# Altium footprint library PcbLib1.PcbLib: 58 footprints (part 2 of 4)
Each footprint in its own frame and in the unit in brackets; x right, y up, seen from the top. Pads: shape width x height; smd on the part's side, far side on the other; paste and mask are expansions set on the pad; w line width, h text height; cw(c..) or ccw(c..) is an arc to the next point about the centre after c.
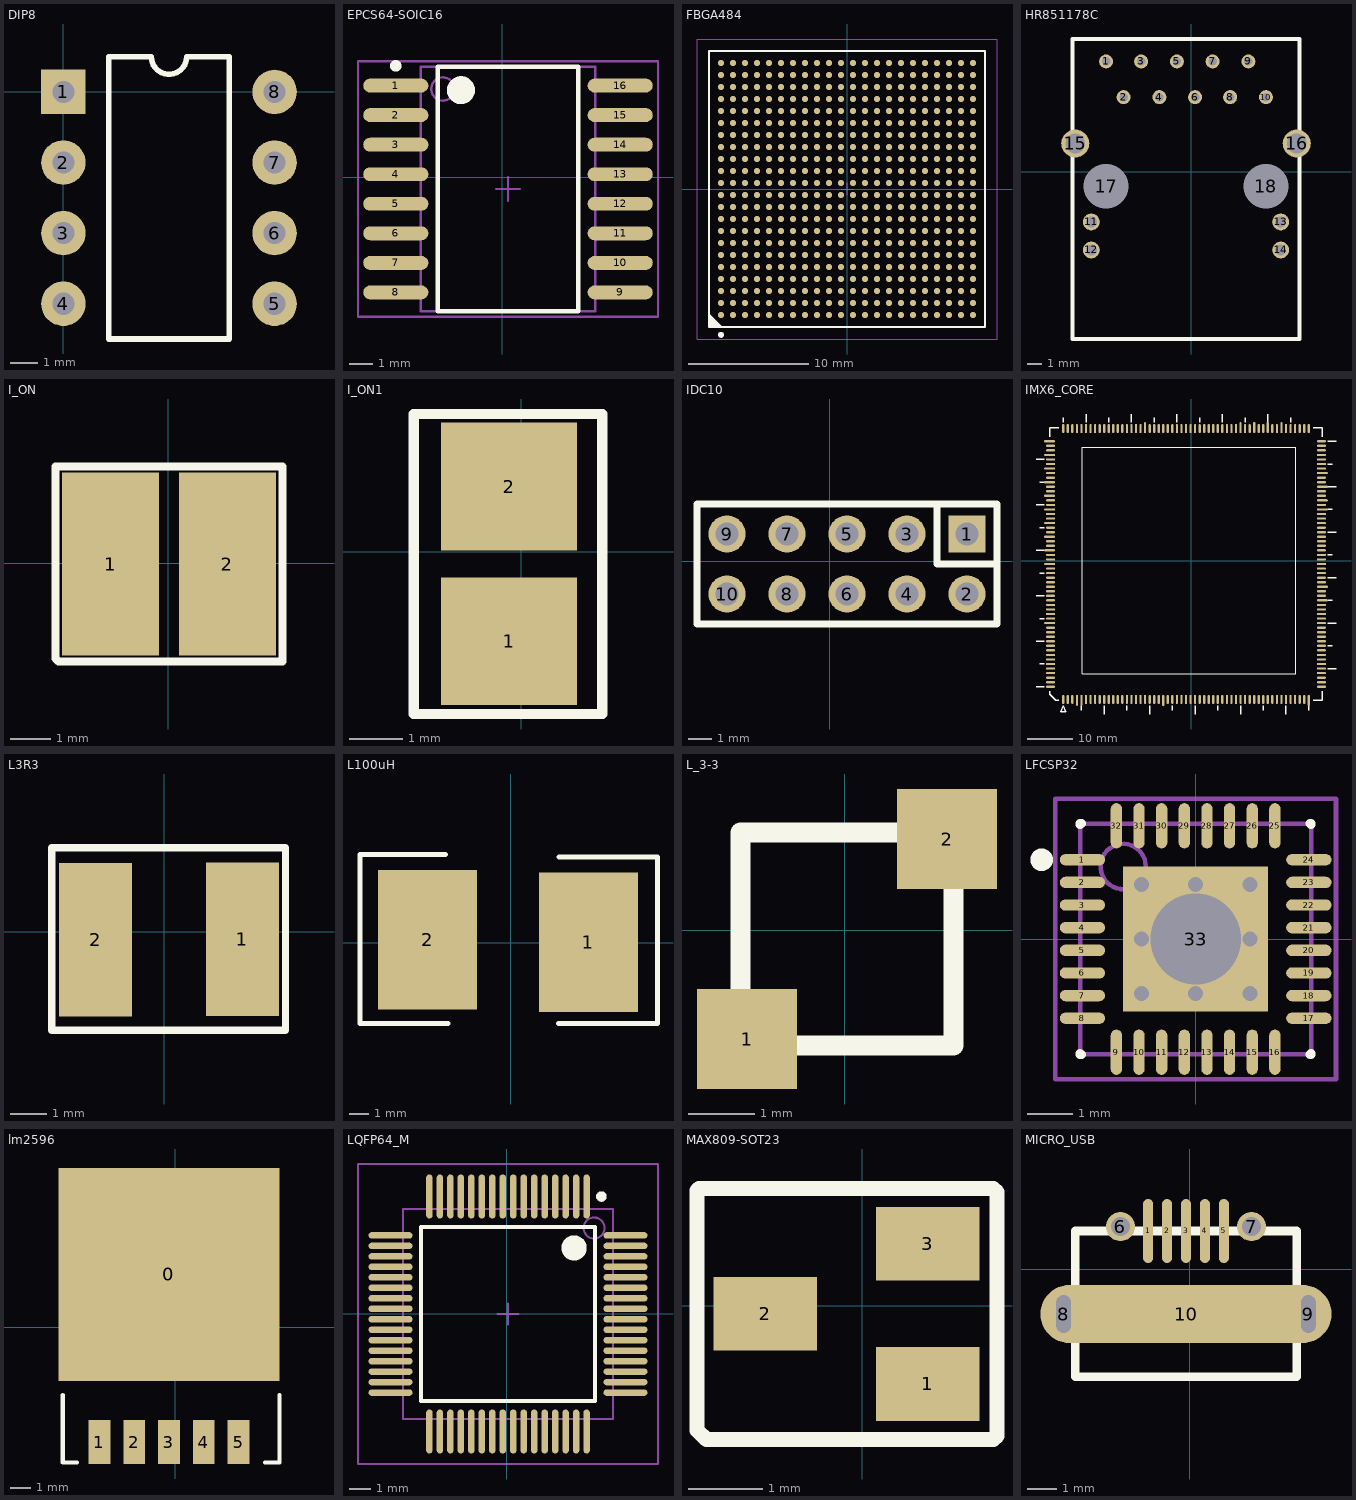
[diagram p1: the footprints below, top view; thin cyan lines are the x and y axes]

## DIP8 [mm]
pads (8):
  rect 1.6x1.6 hole 0.8: 1(0,0)
  round 1.6 hole 0.8: 2(0,-2.54) 3(0,-5.08) 4(0,-7.62) 5(7.6,-7.62) 6(7.6,-5.08) 7(7.6,-2.54) 8(7.6,0)
Top Overlay:
  lines w0.2: 1.635,-8.89 5.965,-8.89 5.965,1.27 4.435,1.27 cw(c3.8,1.27) 3.165,1.27 1.635,1.27 1.635,-8.89

## EPCS64-SOIC16 [mm]
pads (16):
  oval 2.8x0.6 smd: 1(-4.571,3.937) 2(-4.571,2.667) 3(-4.571,1.397) 4(-4.571,0.127) 5(-4.571,-1.143) 6(-4.571,-2.413) 7(-4.571,-3.683) 8(-4.571,-4.953) 9(5.079,-4.953) 10(5.079,-3.683) 11(5.079,-2.413) 12(5.079,-1.143) 13(5.079,0.127) 14(5.079,1.397) 15(5.079,2.667) 16(5.079,3.937)
Top Overlay:
  circle w0.25: c-4.571,4.787 r0.125
  circle w0.6: c-1.771,3.742 r0.3
  lines w0.2: -2.771,-5.758 -2.771,4.742 3.279,4.742 3.279,-5.758 -2.771,-5.758
Mechanical 13:
  circle w0.1: c-2.546,3.792 r0.5
  lines w0.1: -3.496,-5.758 -3.496,4.742 4.004,4.742 4.004,-5.758 -3.496,-5.758
Mechanical 15:
  lines w0.1: -0.246,-0.508 0.754,-0.508 ; 0.254,-1.008 0.254,-0.008 ; -6.196,-6.008 -6.196,4.992 6.704,4.992 6.704,-6.008 -6.196,-6.008
3D body: height 2.65, standoff 0.2, extent -3.496,-5.758 4.004,4.742

## FBGA484 [mm]
pads (484):
  round 0.5 smd: A1(-10.5,-10.5) A2(-10.5,-9.5) A3(-10.5,-8.5) A4(-10.5,-7.5) A5(-10.5,-6.5) A6(-10.5,-5.5) A7(-10.5,-4.5) A8(-10.5,-3.5) A9(-10.5,-2.5) A10(-10.5,-1.5) A11(-10.5,-0.5) A12(-10.5,0.5) A13(-10.5,1.5) A14(-10.5,2.5) A15(-10.5,3.5) A16(-10.5,4.5) A17(-10.5,5.5) A18(-10.5,6.5) A19(-10.5,7.5) A20(-10.5,8.5) A21(-10.5,9.5) A22(-10.5,10.5) AA1(9.5,-10.5) AA2(9.5,-9.5) AA3(9.5,-8.5) AA4(9.5,-7.5) AA5(9.5,-6.5) AA6(9.5,-5.5) AA7(9.5,-4.5) AA8(9.5,-3.5) AA9(9.5,-2.5) AA10(9.5,-1.5) AA11(9.5,-0.5) AA12(9.5,0.5) AA13(9.5,1.5) AA14(9.5,2.5) AA15(9.5,3.5) AA16(9.5,4.5) AA17(9.5,5.5) AA18(9.5,6.5) AA19(9.5,7.5) AA20(9.5,8.5) AA21(9.5,9.5) AA22(9.5,10.5) AB1(10.5,-10.5) AB2(10.5,-9.5) AB3(10.5,-8.5) AB4(10.5,-7.5) AB5(10.5,-6.5) AB6(10.5,-5.5) AB7(10.5,-4.5) AB8(10.5,-3.5) AB9(10.5,-2.5) AB10(10.5,-1.5) AB11(10.5,-0.5) AB12(10.5,0.5) AB13(10.5,1.5) AB14(10.5,2.5) AB15(10.5,3.5) AB16(10.5,4.5) AB17(10.5,5.5) AB18(10.5,6.5) AB19(10.5,7.5) AB20(10.5,8.5) AB21(10.5,9.5) AB22(10.5,10.5) B1(-9.5,-10.5) B2(-9.5,-9.5) B3(-9.5,-8.5) B4(-9.5,-7.5) B5(-9.5,-6.5) B6(-9.5,-5.5) B7(-9.5,-4.5) B8(-9.5,-3.5) B9(-9.5,-2.5) B10(-9.5,-1.5) B11(-9.5,-0.5) B12(-9.5,0.5) B13(-9.5,1.5) B14(-9.5,2.5) B15(-9.5,3.5) B16(-9.5,4.5) B17(-9.5,5.5) B18(-9.5,6.5) B19(-9.5,7.5) B20(-9.5,8.5) B21(-9.5,9.5) B22(-9.5,10.5) C1(-8.5,-10.5) C2(-8.5,-9.5) C3(-8.5,-8.5) C4(-8.5,-7.5) C5(-8.5,-6.5) C6(-8.5,-5.5) C7(-8.5,-4.5) C8(-8.5,-3.5) C9(-8.5,-2.5) C10(-8.5,-1.5) C11(-8.5,-0.5) C12(-8.5,0.5) C13(-8.5,1.5) C14(-8.5,2.5) C15(-8.5,3.5) C16(-8.5,4.5) C17(-8.5,5.5) C18(-8.5,6.5) C19(-8.5,7.5) C20(-8.5,8.5) C21(-8.5,9.5) C22(-8.5,10.5) D1(-7.5,-10.5) D2(-7.5,-9.5) D3(-7.5,-8.5) D4(-7.5,-7.5) D5(-7.5,-6.5) D6(-7.5,-5.5) D7(-7.5,-4.5) D8(-7.5,-3.5) D9(-7.5,-2.5) D10(-7.5,-1.5) D11(-7.5,-0.5) D12(-7.5,0.5) D13(-7.5,1.5) D14(-7.5,2.5) D15(-7.5,3.5) D16(-7.5,4.5) D17(-7.5,5.5) D18(-7.5,6.5) D19(-7.5,7.5) D20(-7.5,8.5) D21(-7.5,9.5) D22(-7.5,10.5) E1(-6.5,-10.5) E2(-6.5,-9.5) E3(-6.5,-8.5) E4(-6.5,-7.5) E5(-6.5,-6.5) E6(-6.5,-5.5) E7(-6.5,-4.5) E8(-6.5,-3.5) E9(-6.5,-2.5) E10(-6.5,-1.5) E11(-6.5,-0.5) E12(-6.5,0.5) E13(-6.5,1.5) E14(-6.5,2.5) E15(-6.5,3.5) E16(-6.5,4.5) E17(-6.5,5.5) E18(-6.5,6.5) E19(-6.5,7.5) E20(-6.5,8.5) E21(-6.5,9.5) E22(-6.5,10.5) F1(-5.5,-10.5) F2(-5.5,-9.5) F3(-5.5,-8.5) F4(-5.5,-7.5) F5(-5.5,-6.5) F6(-5.5,-5.5) F7(-5.5,-4.5) F8(-5.5,-3.5) F9(-5.5,-2.5) F10(-5.5,-1.5) F11(-5.5,-0.5) F12(-5.5,0.5) F13(-5.5,1.5) F14(-5.5,2.5) F15(-5.5,3.5) F16(-5.5,4.5) F17(-5.5,5.5) F18(-5.5,6.5) F19(-5.5,7.5) F20(-5.5,8.5) F21(-5.5,9.5) F22(-5.5,10.5) G1(-4.5,-10.5) G2(-4.5,-9.5) G3(-4.5,-8.5) G4(-4.5,-7.5) G5(-4.5,-6.5) G6(-4.5,-5.5) G7(-4.5,-4.5) G8(-4.5,-3.5) G9(-4.5,-2.5) G10(-4.5,-1.5) G11(-4.5,-0.5) G12(-4.5,0.5) G13(-4.5,1.5) G14(-4.5,2.5) G15(-4.5,3.5) G16(-4.5,4.5) G17(-4.5,5.5) G18(-4.5,6.5) G19(-4.5,7.5) G20(-4.5,8.5) G21(-4.5,9.5) G22(-4.5,10.5) H1(-3.5,-10.5) H2(-3.5,-9.5) H3(-3.5,-8.5) H4(-3.5,-7.5) H5(-3.5,-6.5) H6(-3.5,-5.5) H7(-3.5,-4.5) H8(-3.5,-3.5) H9(-3.5,-2.5) H10(-3.5,-1.5) H11(-3.5,-0.5) H12(-3.5,0.5) H13(-3.5,1.5) H14(-3.5,2.5) H15(-3.5,3.5) H16(-3.5,4.5) H17(-3.5,5.5) H18(-3.5,6.5) H19(-3.5,7.5) H20(-3.5,8.5) H21(-3.5,9.5) H22(-3.5,10.5) J1(-2.5,-10.5) J2(-2.5,-9.5) J3(-2.5,-8.5) J4(-2.5,-7.5) J5(-2.5,-6.5) J6(-2.5,-5.5) J7(-2.5,-4.5) J8(-2.5,-3.5) J9(-2.5,-2.5) J10(-2.5,-1.5) J11(-2.5,-0.5) J12(-2.5,0.5) J13(-2.5,1.5) J14(-2.5,2.5) J15(-2.5,3.5) J16(-2.5,4.5) J17(-2.5,5.5) J18(-2.5,6.5) J19(-2.5,7.5) J20(-2.5,8.5) J21(-2.5,9.5) J22(-2.5,10.5) K1(-1.5,-10.5) K2(-1.5,-9.5) K3(-1.5,-8.5) K4(-1.5,-7.5) K5(-1.5,-6.5) K6(-1.5,-5.5) K7(-1.5,-4.5) K8(-1.5,-3.5) K9(-1.5,-2.5) K10(-1.5,-1.5) K11(-1.5,-0.5) K12(-1.5,0.5) K13(-1.5,1.5) K14(-1.5,2.5) K15(-1.5,3.5) K16(-1.5,4.5) K17(-1.5,5.5) K18(-1.5,6.5) K19(-1.5,7.5) K20(-1.5,8.5) K21(-1.5,9.5) K22(-1.5,10.5) L1(-0.5,-10.5) L2(-0.5,-9.5) L3(-0.5,-8.5) L4(-0.5,-7.5) L5(-0.5,-6.5) L6(-0.5,-5.5) L7(-0.5,-4.5) L8(-0.5,-3.5) L9(-0.5,-2.5) L10(-0.5,-1.5) L11(-0.5,-0.5) L12(-0.5,0.5) L13(-0.5,1.5) L14(-0.5,2.5) L15(-0.5,3.5) L16(-0.5,4.5) L17(-0.5,5.5) L18(-0.5,6.5) L19(-0.5,7.5) L20(-0.5,8.5) L21(-0.5,9.5) L22(-0.5,10.5) M1(0.5,-10.5) M2(0.5,-9.5) M3(0.5,-8.5) M4(0.5,-7.5) M5(0.5,-6.5) M6(0.5,-5.5) M7(0.5,-4.5) M8(0.5,-3.5) M9(0.5,-2.5) M10(0.5,-1.5) M11(0.5,-0.5) M12(0.5,0.5) M13(0.5,1.5) M14(0.5,2.5) M15(0.5,3.5) M16(0.5,4.5) M17(0.5,5.5) M18(0.5,6.5) M19(0.5,7.5) M20(0.5,8.5) M21(0.5,9.5) M22(0.5,10.5) N1(1.5,-10.5) N2(1.5,-9.5) N3(1.5,-8.5) N4(1.5,-7.5) N5(1.5,-6.5) N6(1.5,-5.5) N7(1.5,-4.5) N8(1.5,-3.5) N9(1.5,-2.5) N10(1.5,-1.5) N11(1.5,-0.5) N12(1.5,0.5) N13(1.5,1.5) N14(1.5,2.5) N15(1.5,3.5) N16(1.5,4.5) N17(1.5,5.5) N18(1.5,6.5) N19(1.5,7.5) N20(1.5,8.5) N21(1.5,9.5) N22(1.5,10.5) P1(2.5,-10.5) P2(2.5,-9.5) P3(2.5,-8.5) P4(2.5,-7.5) P5(2.5,-6.5) P6(2.5,-5.5) P7(2.5,-4.5) P8(2.5,-3.5) P9(2.5,-2.5) P10(2.5,-1.5) P11(2.5,-0.5) P12(2.5,0.5) P13(2.5,1.5) P14(2.5,2.5) P15(2.5,3.5) P16(2.5,4.5) P17(2.5,5.5) P18(2.5,6.5) P19(2.5,7.5) P20(2.5,8.5) P21(2.5,9.5) P22(2.5,10.5) R1(3.5,-10.5) R2(3.5,-9.5) R3(3.5,-8.5) R4(3.5,-7.5) R5(3.5,-6.5) R6(3.5,-5.5) R7(3.5,-4.5) R8(3.5,-3.5) R9(3.5,-2.5) R10(3.5,-1.5) R11(3.5,-0.5) R12(3.5,0.5) R13(3.5,1.5) R14(3.5,2.5) R15(3.5,3.5) R16(3.5,4.5) R17(3.5,5.5) R18(3.5,6.5) R19(3.5,7.5) R20(3.5,8.5) R21(3.5,9.5) R22(3.5,10.5) T1(4.5,-10.5) T2(4.5,-9.5) T3(4.5,-8.5) T4(4.5,-7.5) T5(4.5,-6.5) T6(4.5,-5.5) T7(4.5,-4.5) T8(4.5,-3.5) T9(4.5,-2.5) T10(4.5,-1.5) T11(4.5,-0.5) T12(4.5,0.5) T13(4.5,1.5) T14(4.5,2.5) T15(4.5,3.5) T16(4.5,4.5) T17(4.5,5.5) T18(4.5,6.5) T19(4.5,7.5) T20(4.5,8.5) T21(4.5,9.5) T22(4.5,10.5) U1(5.5,-10.5) U2(5.5,-9.5) U3(5.5,-8.5) U4(5.5,-7.5) U5(5.5,-6.5) U6(5.5,-5.5) U7(5.5,-4.5) U8(5.5,-3.5) U9(5.5,-2.5) U10(5.5,-1.5) U11(5.5,-0.5) U12(5.5,0.5) U13(5.5,1.5) U14(5.5,2.5) U15(5.5,3.5) U16(5.5,4.5) U17(5.5,5.5) U18(5.5,6.5) U19(5.5,7.5) U20(5.5,8.5) U21(5.5,9.5) U22(5.5,10.5) V1(6.5,-10.5) V2(6.5,-9.5) V3(6.5,-8.5) V4(6.5,-7.5) V5(6.5,-6.5) V6(6.5,-5.5) V7(6.5,-4.5) V8(6.5,-3.5) V9(6.5,-2.5) V10(6.5,-1.5) V11(6.5,-0.5) V12(6.5,0.5) V13(6.5,1.5) V14(6.5,2.5) V15(6.5,3.5) V16(6.5,4.5) V17(6.5,5.5) V18(6.5,6.5) V19(6.5,7.5) V20(6.5,8.5) V21(6.5,9.5) V22(6.5,10.5) W1(7.5,-10.5) W2(7.5,-9.5) W3(7.5,-8.5) W4(7.5,-7.5) W5(7.5,-6.5) W6(7.5,-5.5) W7(7.5,-4.5) W8(7.5,-3.5) W9(7.5,-2.5) W10(7.5,-1.5) W11(7.5,-0.5) W12(7.5,0.5) W13(7.5,1.5) W14(7.5,2.5) W15(7.5,3.5) W16(7.5,4.5) W17(7.5,5.5) W18(7.5,6.5) W19(7.5,7.5) W20(7.5,8.5) W21(7.5,9.5) W22(7.5,10.5) Y1(8.5,-10.5) Y2(8.5,-9.5) Y3(8.5,-8.5) Y4(8.5,-7.5) Y5(8.5,-6.5) Y6(8.5,-5.5) Y7(8.5,-4.5) Y8(8.5,-3.5) Y9(8.5,-2.5) Y10(8.5,-1.5) Y11(8.5,-0.5) Y12(8.5,0.5) Y13(8.5,1.5) Y14(8.5,2.5) Y15(8.5,3.5) Y16(8.5,4.5) Y17(8.5,5.5) Y18(8.5,6.5) Y19(8.5,7.5) Y20(8.5,8.5) Y21(8.5,9.5) Y22(8.5,10.5)
Top Overlay:
  circle w0.25: c-10.5,-12.15 r0.125
  region: -11.5,-10.5 -10.5,-11.5 -11.5,-11.5
  lines w0.2: -11.5,-10.5 -10.5,-11.5 ; -11.5,-11.5 11.5,-11.5 11.5,11.5 -11.5,11.5 -11.5,-11.5
Mechanical 13:
  lines w0.1: -11.5,-11.5 11.5,-11.5 11.5,11.5 -11.5,11.5 -11.5,-11.5
Mechanical 15:
  lines w0.1: -0.5,0 0.5,0 ; 0,-0.5 0,0.5 ; -12.5,-12.5 12.5,-12.5 12.5,12.5 -12.5,12.5 -12.5,-12.5
3D body: height 2.6, standoff 0, extent -11.5,-11.5 11.5,11.5

## HR851178C [mm]
pads (18):
  round 1 / inner round 1 / far side round 1.6 hole 0.6: 1(-6.081,7.862) 2(-4.831,5.312) 3(-3.581,7.862) 4(-2.281,5.312) 5(-1.031,7.862) 6(0.269,5.312) 7(1.519,7.862) 8(2.769,5.312) 9(4.069,7.862) 10(5.319,5.312)
  round 1.2 / inner round 1.2 / far side round 1.6 hole 0.8: 11(-7.131,-3.588) 12(-7.131,-5.588) 13(6.369,-3.588) 14(6.369,-5.588)
  round 2 / inner round 2 / far side round 2.6 hole 1.4: 15(-8.281,2.012) 16(7.519,2.012)
  round 2 hole 3.2 unplated: 17(-6.081,-1.038) 18(5.319,-1.038)
Top Overlay:
  lines w0.3: -8.481,-11.938 7.719,-11.938 7.719,9.462 -8.481,9.462 -8.481,-11.938

## I_ON [mil]
pads (2):
  rect 95x180 smd: 1(-56.67,-0.77) 2(58.29,-0.77)
Top Overlay:
  lines w7.8: -110.77,-93.72 -110.77,95.28 112.23,95.28 112.23,-96.72 -107.77,-96.72 -110.77,-93.72

## I_ON1 [mil]
pads (2):
  rect 101.26x95 smd: 1(-9.23,-66.67) 2(-9.23,48.29)
Top Overlay:
  lines w7.8: -80,-120.77 60,-120.77 60,102.23 -80,102.23 -80,-120.77

## IDC10 [mil]
pads (10):
  rect 62x62 hole 38: 1(229,45)
  round 62 hole 38: 2(229,-55) 3(129,45) 4(129,-55) 5(29,45) 6(29,-55) 7(-71,45) 8(-71,-55) 9(-171,45) 10(-171,-55)
Top Overlay:
  lines w12: 179,95 179,-5 279,-5 ; -221,-105 279,-105 279,95 -221,95 -221,-105

## IMX6_CORE [mm]
pads (220):
  oval 0.5x2 smd: 1(-28.143,-30.562) 2(-27.143,-30.562) 3(-26.143,-30.562) 6(-23.143,-30.562) 7(-22.143,-30.562) 8(-21.143,-30.562) 9(-20.143,-30.562) 10(-19.143,-30.562) 11(-18.143,-30.562) 12(-17.143,-30.562) 13(-16.143,-30.562) 14(-15.143,-30.562) 15(-14.143,-30.562) 16(-13.143,-30.562) 17(-12.143,-30.562) 18(-11.143,-30.562) 19(-10.143,-30.562) 20(-9.143,-30.562) 21(-8.143,-30.562) 22(-7.143,-30.562) 24(-5.143,-30.562) 25(-4.143,-30.562) 26(-3.143,-30.562) 27(-2.143,-30.562) 28(-1.143,-30.562) 29(-0.143,-30.562) 30(0.857,-30.562) 31(1.857,-30.562) 32(2.857,-30.562) 33(3.857,-30.562) 34(4.857,-30.562) 35(5.857,-30.562) 36(6.857,-30.562) 37(7.857,-30.562) 38(8.857,-30.562) 39(9.857,-30.562) 40(10.857,-30.562) 41(11.857,-30.562) 42(12.857,-30.562) 43(13.857,-30.562) 44(14.857,-30.562) 45(15.857,-30.562) 46(16.857,-30.562) 47(17.857,-30.562) 48(18.857,-30.562) 49(19.857,-30.562) 50(20.857,-30.562) 51(21.857,-30.562) 52(22.857,-30.562) 53(23.857,-30.562) 54(24.857,-30.562) 111(25.857,29.038) 112(24.857,29.038) 113(23.857,29.038) 114(22.857,29.038) 115(21.857,29.038) 116(20.857,29.038) 118(18.857,29.038) 119(17.857,29.038) 121(15.857,29.038) 122(14.857,29.038) 124(12.857,29.038) 125(11.857,29.038) 127(9.857,29.038) 128(8.857,29.038) 129(7.857,29.038) 130(6.857,29.038) 131(5.857,29.038) 132(4.857,29.038) 133(3.857,29.038) 134(2.857,29.038) 135(1.857,29.038) 136(0.857,29.038) 137(-0.143,29.038) 138(-1.143,29.038) 139(-2.143,29.038) 140(-3.143,29.038) 141(-4.143,29.038) 142(-5.143,29.038) 143(-6.143,29.038) 144(-7.143,29.038) 145(-8.143,29.038) 146(-9.143,29.038) 148(-11.143,29.038) 149(-12.143,29.038) 150(-13.143,29.038) 151(-14.143,29.038) 152(-15.143,29.038) 153(-16.143,29.038) 154(-17.143,29.038) 155(-18.143,29.038) 156(-19.143,29.038) 157(-20.143,29.038) 158(-21.143,29.038) 159(-22.143,29.038) 160(-23.143,29.038) 161(-24.143,29.038) 162(-25.143,29.038) 163(-26.143,29.038) 164(-27.143,29.038) 165(-28.143,29.038)
  oval 0.5x2.4 smd: 4(-25.143,-30.762) 5(-24.143,-30.762) 23(-6.143,-30.762) 55(25.857,-30.762) 117(19.857,29.238) 120(16.857,29.238) 123(13.857,29.238) 126(10.857,29.238) 147(-10.143,29.238)
  oval 2x0.5 smd: 56(28.657,-27.762) 57(28.657,-26.762) 58(28.657,-25.762) 59(28.657,-24.762) 60(28.657,-23.762) 61(28.657,-22.762) 62(28.657,-21.762) 63(28.657,-20.762) 64(28.657,-19.762) 65(28.657,-18.762) 66(28.657,-17.762) 67(28.657,-16.762) 68(28.657,-15.762) 69(28.657,-14.762) 70(28.657,-13.762) 71(28.657,-12.762) 72(28.657,-11.762) 73(28.657,-10.762) 74(28.657,-9.762) 76(28.657,-7.762) 77(28.657,-6.762) 79(28.657,-4.762) 80(28.657,-3.762) 81(28.657,-2.762) 82(28.657,-1.762) 83(28.657,-0.762) 84(28.657,0.238) 85(28.657,1.238) 86(28.657,2.238) 87(28.657,3.238) 88(28.657,4.238) 89(28.657,5.238) 90(28.657,6.238) 91(28.657,7.238) 92(28.657,8.238) 93(28.657,9.238) 94(28.657,10.238) 96(28.657,12.238) 98(28.657,14.238) 99(28.657,15.238) 101(28.657,17.238) 102(28.657,18.238) 104(28.657,20.238) 105(28.657,21.238) 106(28.657,22.238) 107(28.657,23.238) 108(28.657,24.238) 109(28.657,25.238) 110(28.657,26.238) 167(-30.943,25.238) 168(-30.943,24.238) 170(-30.943,22.238) 171(-30.943,21.238) 173(-30.943,19.238) 174(-30.943,18.238) 176(-30.943,16.238) 177(-30.943,15.238) 179(-30.943,13.238) 180(-30.943,12.238) 182(-30.943,10.238) 183(-30.943,9.238) 185(-30.943,7.238) 186(-30.943,6.238) 188(-30.943,4.238) 189(-30.943,3.238) 191(-30.943,1.238) 192(-30.943,0.238) 194(-30.943,-1.762) 195(-30.943,-2.762) 196(-30.943,-3.762) 197(-30.943,-4.762) 198(-30.943,-5.762) 199(-30.943,-6.762) 200(-30.943,-7.762) 201(-30.943,-8.762) 202(-30.943,-9.762) 203(-30.943,-10.762) 204(-30.943,-11.762) 205(-30.943,-12.762) 207(-30.943,-14.762) 208(-30.943,-15.762) 209(-30.943,-16.762) 210(-30.943,-17.762) 211(-30.943,-18.762) 212(-30.943,-19.762) 213(-30.943,-20.762) 214(-30.943,-21.762) 215(-30.943,-22.762) 216(-30.943,-23.762) 217(-30.943,-24.762) 218(-30.943,-25.762) 219(-30.943,-26.762) 220(-30.943,-27.762)
  oval 2.4x0.5 smd: 75(28.857,-8.762) 78(28.857,-5.762) 95(28.857,11.238) 97(28.857,13.238) 100(28.857,16.238) 103(28.857,19.238) 166(-31.143,26.238) 169(-31.143,23.238) 172(-31.143,20.238) 175(-31.143,17.238) 178(-31.143,14.238) 181(-31.143,11.238) 184(-31.143,8.238) 187(-31.143,5.238) 190(-31.143,2.238) 193(-31.143,-0.762) 206(-31.143,-13.762)
Top Overlay:
  lines w0.1: -23.943,-24.862 -23.943,24.938 23.057,24.938 23.057,-24.862 -23.943,-24.862
  lines w0.3: -34.143,-27.762 -32.343,-27.762 ; -34.143,-17.762 -32.343,-17.762 ; -34.143,-7.762 -32.343,-7.762 ; -34.143,2.238 -32.343,2.238 ; -34.143,12.238 -32.343,12.238 ; -34.143,22.238 -32.343,22.238 ; -33.343,-22.762 -32.343,-22.762 ; -33.343,-12.762 -32.343,-12.762 ; -33.343,-2.762 -32.343,-2.762 ; -33.343,7.238 -32.343,7.238 ; -33.343,17.238 -32.343,17.238 ; -31.143,-28.762 -31.143,-29.462 -29.843,-30.762 -29.143,-30.762 ; -31.143,27.238 -31.143,29.238 -29.143,29.238 ; -28.143,30.438 -28.143,31.438 ; -24.143,-32.962 -24.143,-31.962 ; -23.143,30.438 -23.143,32.238 ; -19.143,-33.762 -19.143,-31.962 ; -18.143,30.438 -18.143,31.438 ; -14.143,-32.962 -14.143,-31.962 ; -13.143,30.438 -13.143,32.238 ; -9.143,-33.762 -9.143,-31.962 ; -8.143,30.438 -8.143,31.438 ; -4.143,-32.962 -4.143,-31.962 ; -3.143,30.438 -3.143,32.238 ; 0.857,-33.762 0.857,-31.962 ; 1.857,30.438 1.857,31.438 ; 5.857,-32.962 5.857,-31.962 ; 6.857,30.438 6.857,32.238 ; 10.857,-33.762 10.857,-31.962 ; 11.857,30.438 11.857,31.438 ; 15.857,-32.962 15.857,-31.962 ; 16.857,30.438 16.857,32.238 ; 20.857,-33.762 20.857,-31.962 ; 21.857,30.438 21.857,31.438 ; 25.857,-32.962 25.857,-31.962 ; 26.857,-30.762 28.857,-30.762 28.857,-28.762 ; 26.857,29.238 28.857,29.238 28.857,27.238 ; 30.057,-23.762 31.857,-23.762 ; 30.057,-18.762 31.057,-18.762 ; 30.057,-13.762 31.857,-13.762 ; 30.057,-8.762 31.057,-8.762 ; 30.057,-3.762 31.857,-3.762 ; 30.057,1.238 31.057,1.238 ; 30.057,6.238 31.857,6.238 ; 30.057,11.238 31.057,11.238 ; 30.057,16.238 31.857,16.238 ; 30.057,21.238 31.057,21.238 ; 30.057,26.238 31.857,26.238 ; -28.643,-33.262 -27.643,-33.262 -28.143,-31.962 -28.643,-33.262

## L3R3 [mm]
pads (2):
  rect 2x4.2 smd: 1(2.142,-0.213) 2(-1.878,-0.223)
Top Overlay:
  lines w0.2: -3.078,-2.703 3.322,-2.703 3.322,-0.203 3.322,2.297 -3.078,2.297 -3.078,-2.703

## L100uH [mm]
pads (2):
  rect 5x7 smd: 1(3.912,0.025) 2(-4.184,0.152)
Top Overlay:
  lines w0.254: -3.277,4.445 -7.595,4.445 -7.595,-4.064 -3.15,-4.064 ; 2.413,-4.064 7.391,-4.064 7.391,4.318 2.438,4.318

## L_3-3 [mm]
pads (2):
  rect 1.5x1.5 smd: 1(-1.465,-1.631) 2(1.535,1.369)
Top Overlay:
  lines w0.3: -1.565,-1.731 -1.565,1.469 1.635,1.469 1.635,-1.731 -1.565,-1.731

## LFCSP32 [mm] "QFN, 32-Leads, Body 5.1x5.1mm (max), Pitch 0.50mm, IPC Medium Density"
height 0.75
pads (33):
  oval 1x0.25 smd: 1(-2.5,1.75) 2(-2.5,1.25) 3(-2.5,0.75) 4(-2.5,0.25) 5(-2.5,-0.25) 6(-2.5,-0.75) 7(-2.5,-1.25) 8(-2.5,-1.75) 17(2.5,-1.75) 18(2.5,-1.25) 19(2.5,-0.75) 20(2.5,-0.25) 21(2.5,0.25) 22(2.5,0.75) 23(2.5,1.25) 24(2.5,1.75)
  oval 0.25x1 smd: 9(-1.75,-2.5) 10(-1.25,-2.5) 11(-0.75,-2.5) 12(-0.25,-2.5) 13(0.25,-2.5) 14(0.75,-2.5) 15(1.25,-2.5) 16(1.75,-2.5) 25(1.75,2.5) 26(1.25,2.5) 27(0.75,2.5) 28(0.25,2.5) 29(-0.25,2.5) 30(-0.75,2.5) 31(-1.25,2.5) 32(-1.75,2.5)
  rect 3.2x3.2 smd: 33(0,0)
via -1.2,1.2 diameter 0.66 hole 0.33
via 0,1.2 diameter 0.66 hole 0.33
via 1.2,1.2 diameter 0.66 hole 0.33
via -1.2,0 diameter 0.66 hole 0.33
via 0,0 diameter 3 hole 2
via 1.2,0 diameter 0.66 hole 0.33
via -1.2,-1.2 diameter 0.66 hole 0.33
via 0,-1.2 diameter 0.66 hole 0.33
via 1.2,-1.2 diameter 0.66 hole 0.33
Top Overlay:
  circle w0.25: c-3.4,1.75 r0.125
  lines w0.2: -2.55,-2.525 -2.55,-2.55 -2.525,-2.55 ; -2.55,2.525 -2.55,2.55 -2.525,2.55 ; 2.525,-2.55 2.55,-2.55 2.55,-2.525 ; 2.525,2.55 2.55,2.55 2.55,2.525
Mechanical 13:
  circle w0.1: c-1.6,1.6 r0.5
  lines w0.1: -2.55,-2.55 -2.55,2.55 2.55,2.55 2.55,-2.55 -2.55,-2.55
Mechanical 15:
  lines w0.1: -0.5,0 0.5,0 ; 0,-0.5 0,0.5 ; -3.1,-3.1 -3.1,3.1 3.1,3.1 3.1,-3.1 -3.1,-3.1
3D body: height 0.75, standoff 0.03, extent -2.55,-2.55 2.55,2.55

## lm2596 [mm]
pads (6):
  rect 10.8x10.41 smd: 0(-0.301,2.587)
  rect 1.07x2.15 smd: 1(-3.701,-5.613) 2(-2.001,-5.613) 3(-0.301,-5.613) 4(1.399,-5.613) 5(3.099,-5.613)
Top Overlay:
  lines w0.203: -5.501,-3.313 -5.501,-6.613 -4.801,-6.613 ; 4.399,-6.613 5.099,-6.613 5.099,-3.313

## LQFP64_M [mm]
pads (64):
  oval 0.3x2.1 smd: 1(3.81,5.588) 2(3.31,5.588) 3(2.81,5.588) 4(2.31,5.588) 5(1.81,5.588) 6(1.31,5.588) 7(0.81,5.588) 8(0.31,5.588) 9(-0.19,5.588) 10(-0.69,5.588) 11(-1.19,5.588) 12(-1.69,5.588) 13(-2.19,5.588) 14(-2.69,5.588) 15(-3.19,5.588) 16(-3.69,5.588) 33(-3.69,-5.612) 34(-3.19,-5.612) 35(-2.69,-5.612) 36(-2.19,-5.612) 37(-1.69,-5.612) 38(-1.19,-5.612) 39(-0.69,-5.612) 40(-0.19,-5.612) 41(0.31,-5.612) 42(0.81,-5.612) 43(1.31,-5.612) 44(1.81,-5.612) 45(2.31,-5.612) 46(2.81,-5.612) 47(3.31,-5.612) 48(3.81,-5.612)
  oval 2.1x0.3 smd: 17(-5.54,3.738) 18(-5.54,3.238) 19(-5.54,2.738) 20(-5.54,2.238) 21(-5.54,1.738) 22(-5.54,1.238) 23(-5.54,0.738) 24(-5.54,0.238) 25(-5.54,-0.262) 26(-5.54,-0.762) 27(-5.54,-1.262) 28(-5.54,-1.762) 29(-5.54,-2.262) 30(-5.54,-2.762) 31(-5.54,-3.262) 32(-5.54,-3.762) 49(5.66,-3.762) 50(5.66,-3.262) 51(5.66,-2.762) 52(5.66,-2.262) 53(5.66,-1.762) 54(5.66,-1.262) 55(5.66,-0.762) 56(5.66,-0.262) 57(5.66,0.238) 58(5.66,0.738) 59(5.66,1.238) 60(5.66,1.738) 61(5.66,2.238) 62(5.66,2.738) 63(5.66,3.238) 64(5.66,3.738)
Top Overlay:
  circle w0.25: c4.51,5.588 r0.125
  circle w0.6: c3.21,3.138 r0.3
  lines w0.2: -4.09,-4.162 4.21,-4.162 4.21,4.138 -4.09,4.138 -4.09,-4.162
Mechanical 13:
  circle w0.1: c4.16,4.088 r0.5
  lines w0.1: -4.94,-5.012 5.06,-5.012 5.06,4.988 -4.94,4.988 -4.94,-5.012
Mechanical 15:
  lines w0.1: -0.44,-0.012 0.56,-0.012 ; 0.06,-0.512 0.06,0.488 ; -7.09,-7.162 7.21,-7.162 7.21,7.138 -7.09,7.138 -7.09,-7.162

## MAX809-SOT23 [mm]
pads (3):
  rect 1.4x1 smd: 1(0.889,-1.062) 2(-1.311,-0.112) 3(0.889,0.838)
Top Overlay:
  lines w0.203: -2.238,-1.689 -2.111,-1.816 1.776,-1.816 1.826,-1.765 1.826,1.537 1.776,1.588 -2.212,1.588 -2.238,1.562 -2.238,-1.689

## MICRO_USB [mm]
pads (10):
  oval 0.35x2.2 smd: 1(-1.437,1.317) 2(-0.787,1.317) 3(-0.137,1.317) 4(0.513,1.317) 5(1.163,1.317)
  round 1 / inner round 1 / far side round 1.3 hole 0.65: 6(-2.387,1.467) 7(2.113,1.467)
  oval 1.1x1.9 hole 0.5 slot 1.3 at 90 deg: 8(-4.337,-1.533) 9(4.063,-1.533)
  oval 10x2 smd: 10(-0.137,-1.533)
Top Overlay:
  lines w0.3: -3.937,-3.683 3.663,-3.683 3.663,1.317 -3.937,1.317 -3.937,-3.683